# Altium footprint library LED_DRIVER(3-5.5V, 175mAx4, PWM, 8-SOIC).PcbLib: 3 footprints
Each footprint in its own frame and in the unit in brackets; x right, y up, seen from the top. Pads: shape width x height; smd on the part's side, far side on the other; paste and mask are expansions set on the pad; w line width, h text height; cw(c..) or ccw(c..) is an arc to the next point about the centre after c.
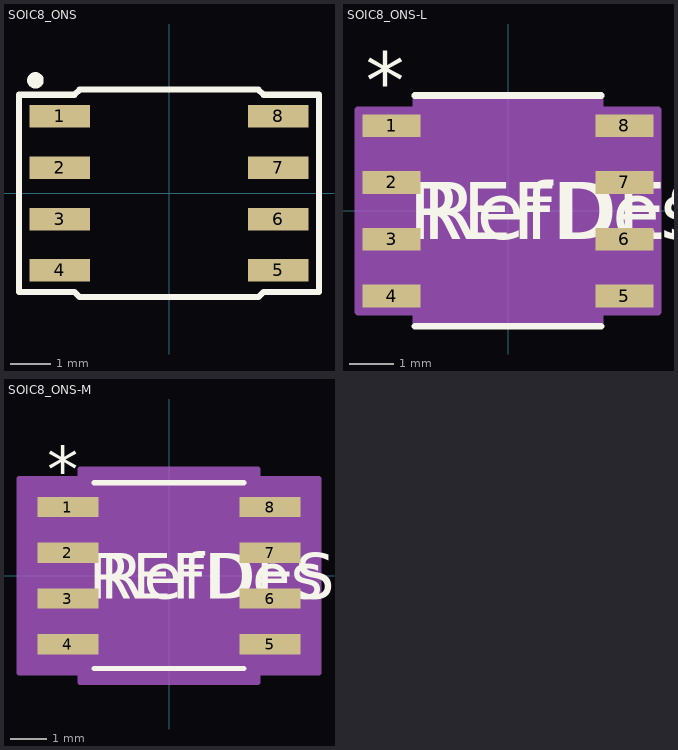
[diagram p0: the footprints below, top view; thin cyan lines are the x and y axes]

## SOIC8_ONS [mil]
pads (8):
  rect 59x22 smd paste+0 mask+0: 1(-106.5,75) 2(-106.5,25) 3(-106.5,-25) 4(-106.5,-75) 5(106.5,-75) 6(106.5,-25) 7(106.5,25) 8(106.5,75)
Top Overlay:
  circle w10: c-130,110 r3
  lines w6: -146,-96 -146,96 -92,96 -87,101 87,101 92,96 146,96 146,-96 92,-96 87,-101 -87,-101 -92,-96 -146,-96
3D body "SOIC8_ONS.step": height 69.09, standoff 0, extent -122.01,-96.5 122.01,96.5

## SOIC8_ONS-L [mil]
pads (8):
  rect 51x20 smd paste+0 mask+0: 1(-102.5,75) 2(-102.5,25) 3(-102.5,-25) 4(-102.5,-75) 5(102.5,-75) 6(102.5,-25) 7(102.5,25) 8(102.5,75)
Top Overlay:
  lines w6: -82,-101.5 82,-101.5 ; -82,101.5 82,101.5
  text "REFDES" at -87.5,-25 h50
  text "*" at -125,90 h50
  text "RefDes" at -75,-25 h50
Mechanical 13:
  lines w0: -12,96.5 ccw(c0,96.5) 12,96.5
  lines w1: -122,-85 -122,-65 -77,-65 -77,-85 -122,-85 ; -122,-35 -122,-15 -77,-15 -77,-35 -122,-35 ; -122,15 -122,35 -77,35 -77,15 -122,15 ; -122,65 -122,85 -77,85 -77,65 -122,65 ; -77,-96.5 77,-96.5 77,96.5 -77,96.5 -77,-96.5 ; 77,-85 77,-65 122,-65 122,-85 77,-85 ; 77,-35 77,-15 122,-15 122,-35 77,-35 ; 77,15 77,35 122,35 122,15 77,15 ; 77,65 77,85 122,85 122,65 77,65
  text "*" at -74.5,43.5 h50
  text "RefDes2" at -87.5,-25 h50
Mechanical 15:
  region: -81,-89 -132,-89 -132,89 -81,89 -81,100.5 81,100.5 81,89 132,89 132,-89 81,-89 81,-100.5 -81,-100.5
  lines w6: -132,-89 -132,89 -81,89 -81,100.5 81,100.5 81,89 132,89 132,-89 81,-89 81,-100.5 -81,-100.5 -81,-89 -132,-89
3D body "SOIC8_ONS.step": height 69.09, standoff 0, extent -122.01,-96.5 122.01,96.5

## SOIC8_ONS-M [mil]
pads (8):
  rect 67x22 smd paste+0 mask+0: 1(-110.5,75) 2(-110.5,25) 3(-110.5,-25) 4(-110.5,-75) 5(110.5,-75) 6(110.5,-25) 7(110.5,25) 8(110.5,75)
Top Overlay:
  lines w6: -82,-101.5 82,-101.5 ; -82,101.5 82,101.5
  text "REFDES" at -87.5,-25 h50
  text "*" at -133,92 h50
  text "RefDes" at -75,-25 h50
Mechanical 13:
  lines w0: -12,96.5 ccw(c0,96.5) 12,96.5
  lines w1: -122,-85 -122,-65 -77,-65 -77,-85 -122,-85 ; -122,-35 -122,-15 -77,-15 -77,-35 -122,-35 ; -122,15 -122,35 -77,35 -77,15 -122,15 ; -122,65 -122,85 -77,85 -77,65 -122,65 ; -77,-96.5 77,-96.5 77,96.5 -77,96.5 -77,-96.5 ; 77,-85 77,-65 122,-65 122,-85 77,-85 ; 77,-35 77,-15 122,-15 122,-35 77,-35 ; 77,15 77,35 122,35 122,15 77,15 ; 77,65 77,85 122,85 122,65 77,65
  text "*" at -74.5,43.5 h50
  text "RefDes2" at -87.5,-25 h50
Mechanical 15:
  region: -97,-106 -164,-106 -164,106 -97,106 -97,116.5 97,116.5 97,106 164,106 164,-106 97,-106 97,-116.5 -97,-116.5
  lines w6: -164,-106 -164,106 -97,106 -97,116.5 97,116.5 97,106 164,106 164,-106 97,-106 97,-116.5 -97,-116.5 -97,-106 -164,-106
3D body "SOIC8_ONS.step": height 69.09, standoff 0, extent -122.01,-96.5 122.01,96.5